# EAGLE library part TF_CARD_1 (library Deegou_Connector)
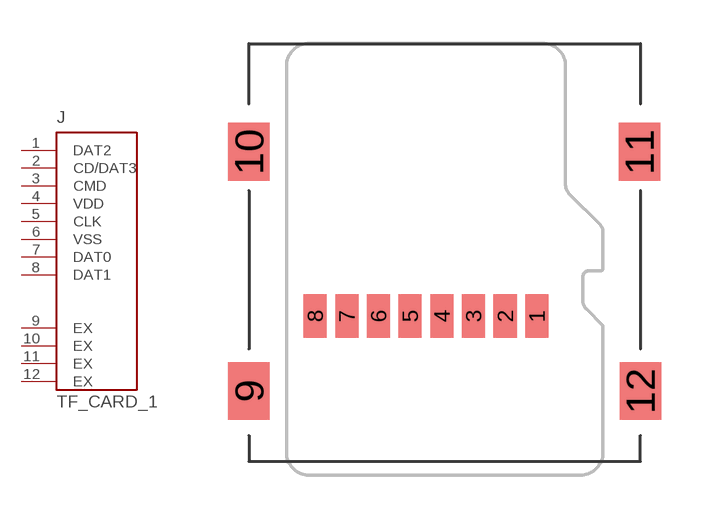
[diagram p16: symbol with the pads of JYS-TF180-008; footprint JYS-TF180-008]

Designator prefix J

## TF_CARD_1  [JYS-TF180-008]
1  DAT2
2  CD/DAT3
3  CMD
4  VDD
5  CLK
6  VSS
7  DAT0
8  DAT1
9  EX
10  EX
11  EX
12  EX

## Footprint JYS-TF180-008 (pad centres in mm)
smd 0.8 x 1.5: 1 3.2,2.6; 2 2.1,2.6; 3 1,2.6; 4 -0.1,2.6; 5 -1.2,2.6; 6 -2.3,2.6; 7 -3.4,2.6; 8 -4.5,2.6
smd 1.45 x 2: 9 -6.8,0; 10 -6.8,8.3; 11 6.765,8.3; 12 6.8,0